# Altium footprint library lagd_pcb.PcbLib: 42 footprints (part 1 of 3)
Each footprint in its own frame and in the unit in brackets; x right, y up, seen from the top. Pads: shape width x height; smd on the part's side, far side on the other; paste and mask are expansions set on the pad; w line width, h text height; cw(c..) or ccw(c..) is an arc to the next point about the centre after c.
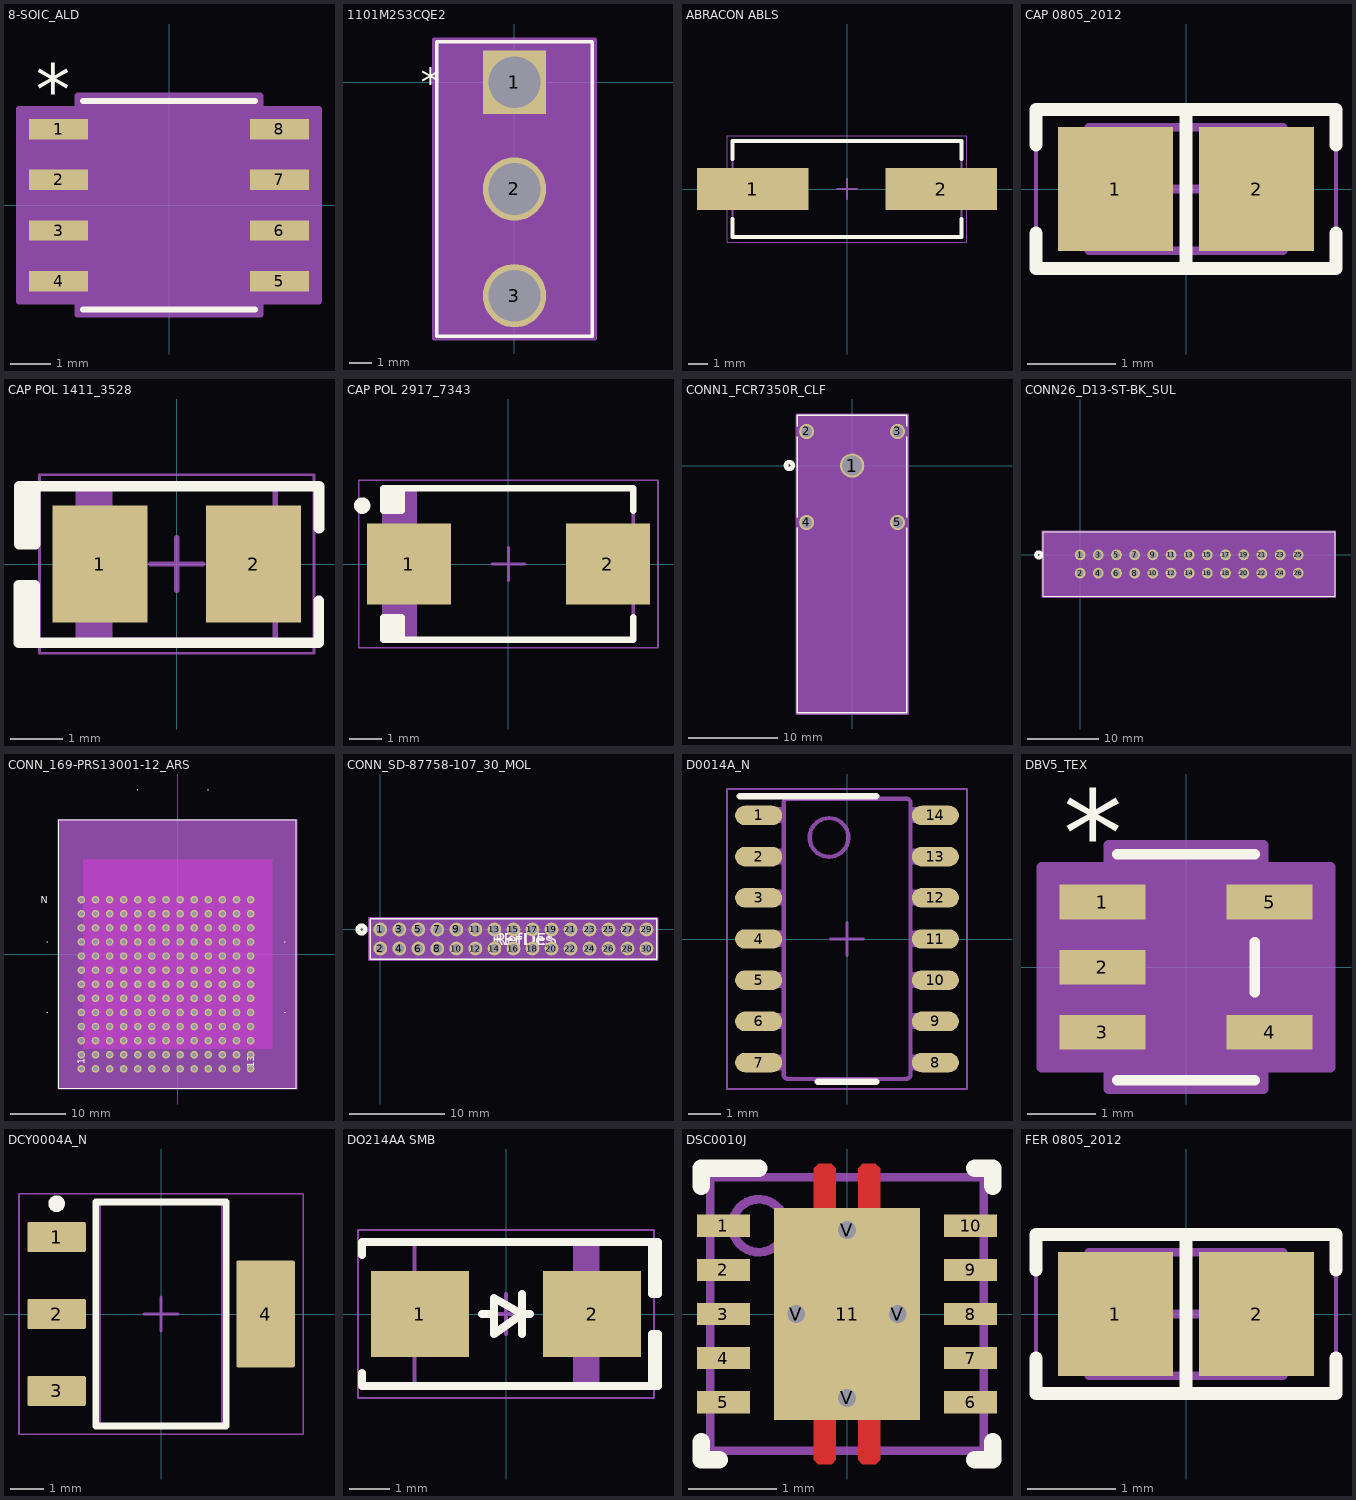
[diagram p0: the footprints below, top view; thin cyan lines are the x and y axes]

## 8-SOIC_ALD [mil]
pads (8):
  rect 58x20 smd paste+0 mask+0: 1(-109,75) 2(-109,25) 3(-109,-25) 4(-109,-75) 5(109,-75) 6(109,-25) 7(109,25) 8(109,75)
Top Overlay:
  lines w6: -85,-103 85,-103 ; -85,103 85,103
  text "*" at -131.5,90 h50
Top 3D Body:
  lines w1: -12,98 ccw(c0,98) 12,98 ; -124,-84 -80,-84 -80,-66 -124,-66 -124,-84 ; -124,-34 -80,-34 -80,-16 -124,-16 -124,-34 ; -124,16 -80,16 -80,34 -124,34 -124,16 ; -124,66 -80,66 -80,84 -124,84 -124,66 ; -80,-98 -80,98 80,98 80,-98 -80,-98 ; 80,-84 124,-84 124,-66 80,-66 80,-84 ; 80,-34 124,-34 124,-16 80,-16 80,-34 ; 80,16 124,16 124,34 80,34 80,16 ; 80,66 124,66 124,84 80,84 80,66
  text "*" at -77.5,45 h50
Top Courtyard:
  region: -90,-95 -148,-95 -148,95 -90,95 -90,108 90,108 90,95 148,95 148,-95 90,-95 90,-108 -90,-108
  lines w6: -148,-95 -90,-95 -90,-108 90,-108 90,-95 148,-95 148,95 90,95 90,108 -90,108 -90,95 -148,95 -148,-95
3D body "8-SOIC_ALD.step": height 69.09, standoff 0, extent -124.02,-97.99 124.02,97.99

## 1101M2S3CQE2 [mil]
pads (3):
  rect 110x110 hole 90 paste-99999 mask+0: 1(0,0)
  round 110 hole 90 paste-99999 mask+0: 2(0,-185) 3(0,-370)
Top Overlay:
  lines w6: -135,-440 -135,70 135,70 135,-440 -135,-440
  text "*" at -162.5,-25 h50
  text ".Designator" at -137.5,-210 h50
Top 3D Body:
  region: 76,-303.5 -76,-303.5 -76,-185 76,-185
  lines w1: -130,-435 -130,65 130,65 130,-435 -130,-435 ; -76,-303.5 76,-303.5 76,-66.5 -76,-66.5 -76,-303.5
  text ".Designator" at -137.5,-210 h50
  text "*" at -127.5,-25 h50
Top Courtyard:
  region: 140,-445 -140,-445 -140,75 140,75
  lines w6: -140,-445 -140,75 140,75 140,-445 -140,-445

## ABRACON ABLS [mm] "Crystal, 2-Leads, Body 4.70x11.40mm, Pitch 8.80mm, IPC Medium Density"
height 4.2
pads (2):
  rect 5.6x2.1 smd: 1(-4.75,0) 2(4.75,0)
Top Overlay:
  lines w0.2: -5.775,-1.5 -5.775,-2.425 5.775,-2.425 5.775,-1.5 ; -5.775,1.5 -5.775,2.425 5.775,2.425 5.775,1.5
Top 3D Body:
  lines w0.1: -5.775,-2.425 5.775,-2.425 5.775,2.425 -5.775,2.425 -5.775,-2.425
Top Courtyard:
  lines w0.05: -6.025,-2.675 6.025,-2.675 6.025,2.675 -6.025,2.675 -6.025,-2.675
  lines w0.1: -0.5,0 0.5,0 ; 0,-0.5 0,0.5
3D body "HC49US SMT Crystal.STEP": height 4.2, standoff 0, extent -6.35,-2.35 6.35,2.35

## CAP 0805_2012 [mm] "Chip Capacitor, 2-Leads, Body 2.00x1.20mm, IPC Medium Density"
height 1.15
pads (2):
  rect 1.3x1.4 smd: 1(-0.8,0) 2(0.8,0)
Top Overlay:
  lines w0.15: -1.7,-0.5 -1.7,-0.9 1.7,-0.9 1.7,-0.5 ; -1.7,0.5 -1.7,0.9 1.7,0.9 1.7,0.5 ; 0,-0.9 0,0.9
Top 3D Body:
  lines w0.1: -1.1,-0.7 1.1,-0.7 1.1,0.7 -1.1,0.7 -1.1,-0.7
Top Courtyard:
  lines w0.05: -1.7,-0.95 1.7,-0.95 1.7,0.95 -1.7,0.95 -1.7,-0.95
  lines w0.1: -0.5,0 0.5,0 ; 0,-0.5 0,0.5
3D body "0805 cap.STEP": height 1.26, standoff -0.02, extent -1,-0.637 1,0.637

## CAP POL 1411_3528 [mm] "Molded Capacitor, 2-Leads, Body 3.50x2.80mm, IPC Medium Density"
height 2
pads (2):
  rect 1.8x2.23 smd: 1(-1.46,0) 2(1.46,0)
Top Overlay:
  region: -3,-0.4 -3,-1.5 -2.7,-1.5 -2.7,-0.4
  region: -2.995,0.38 -2.995,1.48 -2.695,1.48 -2.695,0.38
  lines w0.2: 2.7,-0.7 2.7,-1.5 -2.7,-1.5 ; 2.705,0.68 2.705,1.48 -2.695,1.48 ; -2.7,-1.5 -2.7,-0.4 -3,-0.4 -3,-1.5 -2.7,-1.5 ; -2.695,1.48 -2.695,0.38 -2.995,0.38 -2.995,1.48 -2.695,1.48
Top 3D Body:
  rectangle: -1.876,-1.45 -1.226,1.45
  lines w0.1: -1.875,-1.45 1.875,-1.45 1.875,1.45 -1.875,1.45 -1.875,-1.45
Top Courtyard:
  lines w0.05: -2.61,-1.7 2.61,-1.7 2.61,1.7 -2.61,1.7 -2.61,-1.7
  lines w0.1: -0.5,0 0.5,0 ; 0,-0.5 0,0.5
3D body "CAP TANT - 1411 - 2.0MM.step": height 2, standoff 0, extent -1.865,-1.45 1.865,1.45

## CAP POL 2917_7343 [mm] "Molded Capacitor, 2-Leads, Body 7.30x4.30mm, IPC Medium Density"
height 4.3
pads (2):
  rect 2.55x2.45 smd: 1(-3.025,0) 2(3.025,0)
Top Overlay:
  circle w0.25: c-4.45,1.775 r0.125
  rectangle: -3.8,1.625 -3.25,2.3
  rectangle: -3.8,-2.3 -3.25,-1.625
  lines w0.2: -3.25,-2.3 -3.25,-1.625 -3.8,-1.625 -3.8,-2.3 3.8,-2.3 3.8,-1.625 ; -3.25,2.3 -3.25,1.625 -3.8,1.625 -3.8,2.3 3.8,2.3 3.8,1.625
Top 3D Body:
  rectangle: -3.8,-2.3 -2.778,2.3
  lines w0.1: -3.8,-2.3 3.8,-2.3 3.8,2.3 -3.8,2.3 -3.8,-2.3
Top Courtyard:
  lines w0.05: -4.55,-2.55 4.55,-2.55 4.55,2.55 -4.55,2.55 -4.55,-2.55
  lines w0.1: -0.5,0 0.5,0 ; 0,-0.5 0,0.5
3D body "Tantalum Capacitor case E.STEP": height 4.1, standoff 0, extent -3.65,-2.15 3.65,2.15

## CONN1_FCR7350R_CLF [mil]
pads (5):
  round 107 hole 87 paste-99999 mask+0: 1(0,0)
  round 67 hole 47 paste-99999 mask+0: 2(-200,149.61) 3(200,149.61) 4(-200,-250.39) 5(200,-250.39)
Top Overlay:
  circle w20: c-276,0 r15
  lines w6: -241,-272.54 -241,-1087.46 241,-1087.46 241,-272.54 ; -241,-228.25 -241,127.46 ; -241,171.75 -241,221.54 241,221.54 241,171.75 ; 241,-228.25 241,127.46
  text ".Designator" at -137.5,-25 h50
Bottom Overlay:
  circle w20: c-276,0 r15
Top 3D Body:
  circle w20: c0,0 r15
  lines w1: -236,-1082.46 236,-1082.46 236,216.54 -236,216.54 -236,-1082.46
  text ".Designator" at -137.5,-25 h50
Top Courtyard:
  region: 246,226.54 -246,226.54 -246,-1092.46 246,-1092.46
  lines w6: -246,-1092.46 -246,226.54 246,226.54 246,-1092.46 -246,-1092.46

## CONN26_D13-ST-BK_SUL [mil]
pads (26):
  round 59 / inner round 60 / far side round 59 hole 39 paste-99999 mask+0: 1(0,0) 2(0,-100) 3(100,0) 4(100,-100) 5(200,0) 6(200,-100) 7(300,0) 8(300,-100) 9(400,0) 10(400,-100) 11(500,0) 12(500,-100) 13(600,0) 14(600,-100) 15(700,0) 16(700,-100) 17(800,0) 18(800,-100) 19(900,0) 20(900,-100) 21(1000,0) 22(1000,-100) 23(1100,0) 24(1100,-100) 25(1200,0) 26(1200,-100)
Top Overlay:
  circle w20: c-227.5,0 r15
  lines w6: -202.5,-228 1402.5,-228 1402.5,128 -202.5,128 -202.5,-228
Bottom Overlay:
  circle w20: c-227.5,0 r15
Top 3D Body:
  circle w20: c0,75 r15
  lines w1: -197.5,-223 1397.5,-223 1397.5,123 -197.5,123 -197.5,-223
Top Courtyard:
  region: 1407.5,133 -207.5,133 -207.5,-233 1407.5,-233
  lines w6: -207.5,-233 -207.5,133 1407.5,133 1407.5,-233 -207.5,-233

## CONN_169-PRS13001-12_ARS [mil]
pads (169):
  round 54 hole 34 paste-99999 mask+0: A1(-682.5,-814) A2(-582.5,-814) A3(-482.5,-814) A4(-382.5,-814) A5(-282.5,-814) A6(-182.5,-814) A7(-82.5,-814) A8(17.5,-814) A9(117.5,-814) A10(217.5,-814) A11(317.5,-814) A12(417.5,-814) A13(517.5,-814) B1(-682.5,-714) B2(-582.5,-714) B3(-482.5,-714) B4(-382.5,-714) B5(-282.5,-714) B6(-182.5,-714) B7(-82.5,-714) B8(17.5,-714) B9(117.5,-714) B10(217.5,-714) B11(317.5,-714) B12(417.5,-714) B13(517.5,-714) C1(-682.5,-614) C2(-582.5,-614) C3(-482.5,-614) C4(-382.5,-614) C5(-282.5,-614) C6(-182.5,-614) C7(-82.5,-614) C8(17.5,-614) C9(117.5,-614) C10(217.5,-614) C11(317.5,-614) C12(417.5,-614) C13(517.5,-614) D1(-682.5,-514) D2(-582.5,-514) D3(-482.5,-514) D4(-382.5,-514) D5(-282.5,-514) D6(-182.5,-514) D7(-82.5,-514) D8(17.5,-514) D9(117.5,-514) D10(217.5,-514) D11(317.5,-514) D12(417.5,-514) D13(517.5,-514) E1(-682.5,-414) E2(-582.5,-414) E3(-482.5,-414) E4(-382.5,-414) E5(-282.5,-414) E6(-182.5,-414) E7(-82.5,-414) E8(17.5,-414) E9(117.5,-414) E10(217.5,-414) E11(317.5,-414) E12(417.5,-414) E13(517.5,-414) F1(-682.5,-314) F2(-582.5,-314) F3(-482.5,-314) F4(-382.5,-314) F5(-282.5,-314) F6(-182.5,-314) F7(-82.5,-314) F8(17.5,-314) F9(117.5,-314) F10(217.5,-314) F11(317.5,-314) F12(417.5,-314) F13(517.5,-314) G1(-682.5,-214) G2(-582.5,-214) G3(-482.5,-214) G4(-382.5,-214) G5(-282.5,-214) G6(-182.5,-214) G7(-82.5,-214) G8(17.5,-214) G9(117.5,-214) G10(217.5,-214) G11(317.5,-214) G12(417.5,-214) G13(517.5,-214) H1(-682.5,-114) H2(-582.5,-114) H3(-482.5,-114) H4(-382.5,-114) H5(-282.5,-114) H6(-182.5,-114) H7(-82.5,-114) H8(17.5,-114) H9(117.5,-114) H10(217.5,-114) H11(317.5,-114) H12(417.5,-114) H13(517.5,-114) J1(-682.5,-14) J2(-582.5,-14) J3(-482.5,-14) J4(-382.5,-14) J5(-282.5,-14) J6(-182.5,-14) J7(-82.5,-14) J8(17.5,-14) J9(117.5,-14) J10(217.5,-14) J11(317.5,-14) J12(417.5,-14) J13(517.5,-14) K1(-682.5,86) K2(-582.5,86) K3(-482.5,86) K4(-382.5,86) K5(-282.5,86) K6(-182.5,86) K7(-82.5,86) K8(17.5,86) K9(117.5,86) K10(217.5,86) K11(317.5,86) K12(417.5,86) K13(517.5,86) L1(-682.5,186) L2(-582.5,186) L3(-482.5,186) L4(-382.5,186) L5(-282.5,186) L6(-182.5,186) L7(-82.5,186) L8(17.5,186) L9(117.5,186) L10(217.5,186) L11(317.5,186) L12(417.5,186) L13(517.5,186) M1(-682.5,286) M2(-582.5,286) M3(-482.5,286) M4(-382.5,286) M5(-282.5,286) M6(-182.5,286) M7(-82.5,286) M8(17.5,286) M9(117.5,286) M10(217.5,286) M11(317.5,286) M12(417.5,286) M13(517.5,286) N1(-682.5,386) N2(-582.5,386) N3(-482.5,386) N4(-382.5,386) N5(-282.5,386) N6(-182.5,386) N7(-82.5,386) N8(17.5,386) N9(117.5,386) N10(217.5,386) N11(317.5,386) N12(417.5,386) N13(517.5,386)
Top Overlay:
  lines w6: -930,-414 -920,-414 ; -930,86 -920,86 ; -282.5,1161 -282.5,1171 ; 217.5,1161 217.5,1171 ; 755,-414 765,-414 ; 755,86 765,86 ; -842.5,-952 842.5,-952 842.5,952 -842.5,952 -842.5,-952
  text "N" at -970,361 h50
  text "1" at -657.5,-783 h50
  text "13" at 542.5,-808 h50
  text ".Designator" at -137.5,-25 h50
Bottom Overlay:
  text "N" at -945,361 h50
  text "1" at -707.5,-783 h50
  text "13" at 492.5,-808 h50
Keep-Out Layer:
  region: -670,-670 -670,670 670,670 670,-670
Top 3D Body:
  lines w1: -837.5,-897 -787.5,-947 ; -837.5,-947 837.5,-947 837.5,947 -837.5,947 -837.5,-947
  text ".Designator" at -137.5,-25 h50
  text "N" at -970,361 h50
  text "A" at -968.33,-840.38 h50
  text "1" at -657.5,-783 h50
  text "13" at 542.5,-808 h50
Top Courtyard:
  region: 847.5,-957 -847.5,-957 -847.5,957 847.5,957
  lines w6: -847.5,-957 -847.5,957 847.5,957 847.5,-957 -847.5,-957

## CONN_SD-87758-107_30_MOL [mil]
pads (30):
  round 57 / inner round 60 / far side round 57 hole 37 paste-99999 mask+0: 1(0,0) 2(0,-78.74) 3(78.74,0) 4(78.74,-78.74) 5(157.48,0) 6(157.48,-78.74) 7(236.22,0) 8(236.22,-78.74) 9(314.96,0) 10(314.96,-78.74) 11(393.7,0) 12(393.7,-78.74) 13(472.44,0) 14(472.44,-78.74) 15(551.18,0) 16(551.18,-78.74) 17(629.92,0) 18(629.92,-78.74) 19(708.66,0) 20(708.66,-78.74) 21(787.4,0) 22(787.4,-78.74) 23(866.14,0) 24(866.14,-78.74) 25(944.88,0) 26(944.88,-78.74) 27(1023.62,0) 28(1023.62,-78.74) 29(1102.36,0) 30(1102.36,-78.74)
Top Overlay:
  circle w20: c-77.32,0 r15
  lines w6: -42.32,-122.87 1144.68,-122.87 1144.68,44.13 -42.32,44.13 -42.32,-122.87
  text "RefDes" at 476.18,-64.37 h50
  text "REFDES" at 463.68,-64.37 h50
Bottom Overlay:
  circle w20: c-77.32,0 r15
Top 3D Body:
  circle w20: c0,0 r15
  lines w1: -37.32,-117.87 1139.68,-117.87 1139.68,39.13 -37.32,39.13 -37.32,-117.87
  text "RefDes2" at 463.68,-64.37 h50
Top Courtyard:
  region: 1149.68,49.13 -47.32,49.13 -47.32,-127.87 1149.68,-127.87
  lines w6: -47.32,-127.87 -47.32,49.13 1149.68,49.13 1149.68,-127.87 -47.32,-127.87

## D0014A_N [mm]
pads (14):
  oval 1.45x0.6 smd paste+0 mask+0: 1(-2.725,3.81) 2(-2.725,2.54) 3(-2.725,1.27) 4(-2.725,0) 5(-2.725,-1.27) 6(-2.725,-2.54) 7(-2.725,-3.81) 8(2.725,-3.81) 9(2.725,-2.54) 10(2.725,-1.27) 11(2.725,0) 12(2.725,1.27) 13(2.725,2.54) 14(2.725,3.81)
Top Overlay:
  lines w0.2: -3.3,4.4 0.9,4.4 ; -0.9,-4.4 0.9,-4.4
Top 3D Body:
  drawing of 164 lines, arcs and shapes, not listed
Top Courtyard:
  lines w0.05: -3.7,-4.625 -3.7,4.625 3.7,4.625 3.7,-4.625 -3.7,-4.625
  lines w0.1: -0.5,0 0.5,0 ; 0,-0.5 0,0.5

## DBV5_TEX [mil]
pads (5):
  rect 49.56x20 smd paste+0 mask+0: 1(-48,37.4) 2(-48,0) 3(-48,-37.4) 4(48,-37.4) 5(48,37.4)
Top Overlay:
  lines w6: -39.5,-65 39.5,-65 ; -39.5,65 39.5,65 ; 39.5,-14.3 39.5,14.3
  text "*" at -70.5,52.4 h50
Top 3D Body:
  lines w1: -12,60 ccw(c0,60) 12,60 ; -59,-47.4 -34.5,-47.4 -34.5,-27.4 -59,-27.4 -59,-47.4 ; -59,-10 -34.5,-10 -34.5,10 -59,10 -59,-10 ; -59,27.4 -34.5,27.4 -34.5,47.4 -59,47.4 -59,27.4 ; -34.5,-60 -34.5,60 34.5,60 34.5,-60 -34.5,-60 ; 34.5,-47.4 59,-47.4 59,-27.4 34.5,-27.4 34.5,-47.4 ; 34.5,27.4 59,27.4 59,47.4 34.5,47.4 34.5,27.4
  text "*" at -37,14.4 h50
Top Courtyard:
  region: 44.5,-70 -44.5,-70 -44.5,-57.4 -82.78,-57.4 -82.78,57.4 -44.5,57.4 -44.5,70 44.5,70 44.5,57.4 82.78,57.4 82.78,-57.4 44.5,-57.4
  lines w6: -82.78,-57.4 -82.78,57.4 -44.5,57.4 -44.5,70 44.5,70 44.5,57.4 82.78,57.4 82.78,-57.4 44.5,-57.4 44.5,-70 -44.5,-70 -44.5,-57.4 -82.78,-57.4
3D body "DBV5_TEX.step": height 67.09, standoff 0, extent -59.02,-60 59.02,60

## DCY0004A_N [mm] "SOT223, 4-Leads, Body 6.7x3.7mm, Pitch 2.3mm, IPC Medium Density"
height 1.8
pads (4):
  rrect11% 1.75x0.9 smd: 1(-3.125,2.3) 2(-3.125,0) 3(-3.125,-2.3)
  rrect6% 1.75x3.2 smd: 4(3.125,0)
Top Overlay:
  circle w0.25: c-3.125,3.3 r0.125
  lines w0.2: -1.95,-3.35 -1.95,3.35 1.95,3.35 1.95,-3.35 -1.95,-3.35
Mechanical 1:
  text ".Designator" at -1.651,-0.254 h0.8
Top 3D Body:
  lines w0.1: -1.85,-3.35 -1.85,3.35 1.85,3.35 1.85,-3.35 -1.85,-3.35
Top Courtyard:
  lines w0.05: -4.25,-3.6 -4.25,3.6 4.25,3.6 4.25,-3.6 -4.25,-3.6
  lines w0.1: -0.5,0 0.5,0 ; 0,-0.5 0,0.5
3D body "SOT-223.stp": height 1.62, standoff -0.03, extent -3.5,-3.25 3.5,3.25

## DO214AA SMB [mm] "Molded Diode, 2-Leads, Body 4.31x3.62mm, IPC Medium Density"
height 2.44
pads (2):
  rect 2.45x2.15 smd: 1(-2.15,0) 2(2.15,0)
Top Overlay:
  lines w0.2: -3.6,-1.475 -3.6,-1.8 3.8,-1.8 3.8,-0.5 3.65,-0.5 3.65,-1.8 ; -3.6,1.475 -3.6,1.8 3.8,1.8 3.8,0.5 3.65,0.5 3.65,1.8 ; -0.6,0 -0.3,0 ; 0.4,-0.5 0.4,0.5 ; 0.6,0 0.4,0 ; 0.4,0 -0.3,-0.5 -0.3,0.4 0.4,0
Top 3D Body:
  rectangle: 1.669,-1.801 2.284,1.799
  lines w0.1: -2.285,-1.8 -2.285,1.8 2.285,1.8 2.285,-1.8 -2.285,-1.8
Top Courtyard:
  lines w0.05: -3.7,-2.1 -3.7,2.1 3.7,2.1 3.7,-2.1 -3.7,-2.1
  lines w0.1: -0.5,0 0.5,0 ; 0,-0.5 0,0.5
3D body "SMB.STEP": height 2.4, standoff 0, extent -2.6,-1.8 2.6,1.8

## DSC0010J [mm]
pads (15):
  rect 0.6x0.25 smd paste+0 mask+0: 1(-1.4,1) 2(-1.4,0.5) 3(-1.4,0) 4(-1.4,-0.5) 5(-1.4,-1) 6(1.4,-1) 7(1.4,-0.5) 8(1.4,0) 9(1.4,0.5) 10(1.4,1)
  rect 1.65x2.4 smd paste-1.187 mask-1.181: 11(0,0)
  round 0.5 hole 0.203 paste-2539.97 mask-0.051: V(-0.575,0) V(0,-0.95) V(0,0.95) V(0.575,0)
Top Layer:
  region: -0.325,-1.7 -0.375,-1.65 -0.375,-1.2 -0.775,-1.2 -0.825,-1.15 -0.825,1.15 -0.775,1.2 -0.375,1.2 -0.375,1.65 -0.325,1.7 -0.175,1.7 -0.125,1.65 -0.125,1.2 0.125,1.2 0.125,1.65 0.175,1.7 0.325,1.7 0.375,1.65 0.375,1.2 0.775,1.2 0.825,1.15 0.825,-1.15 0.775,-1.2 0.375,-1.2 0.375,-1.65 0.325,-1.7 0.175,-1.7 0.125,-1.65 0.125,-1.2 -0.125,-1.2 -0.125,-1.65 -0.175,-1.7
Top Overlay:
  lines w0.2: -1.65,-1.45 -1.65,-1.65 -1.45,-1.65 ; -1.65,1.45 -1.65,1.65 -1,1.65 ; 1.45,-1.65 1.65,-1.65 1.65,-1.45 ; 1.45,1.65 1.65,1.65 1.65,1.45
Top Paste:
  region: -0.325,1.36 -0.375,1.41 -0.375,1.65 -0.325,1.7 -0.175,1.7 -0.125,1.65 -0.125,1.41 -0.175,1.36
  region: 0.175,1.36 0.125,1.41 0.125,1.65 0.175,1.7 0.325,1.7 0.375,1.65 0.375,1.41 0.325,1.36
  region: -0.325,-1.7 -0.375,-1.65 -0.375,-1.41 -0.325,-1.36 -0.175,-1.36 -0.125,-1.41 -0.125,-1.65 -0.175,-1.7
  region: 0.125,-1.41 0.125,-1.65 0.175,-1.7 0.325,-1.7 0.375,-1.65 0.375,-1.41 0.325,-1.36 0.175,-1.36
  region: -0.7,0.1 -0.75,0.15 -0.75,1.11 -0.7,1.16 0.7,1.16 0.75,1.11 0.75,0.15 0.7,0.1
  region: -0.75,-0.15 -0.75,-1.11 -0.7,-1.16 0.7,-1.16 0.75,-1.11 0.75,-0.15 0.7,-0.1 -0.7,-0.1
Top Solder:
  region: -0.325,-1.7 -0.375,-1.65 -0.375,-1.2 -0.775,-1.2 -0.825,-1.15 -0.825,1.15 -0.775,1.2 -0.375,1.2 -0.375,1.65 -0.325,1.7 -0.175,1.7 -0.125,1.65 -0.125,1.2 0.125,1.2 0.125,1.65 0.175,1.7 0.325,1.7 0.375,1.65 0.375,1.2 0.775,1.2 0.825,1.15 0.825,-1.15 0.775,-1.2 0.375,-1.2 0.375,-1.65 0.325,-1.7 0.175,-1.7 0.125,-1.65 0.125,-1.2 -0.125,-1.2 -0.125,-1.65 -0.175,-1.7
Top 3D Body:
  circle w0.1: c-1,1 r0.3
  lines w0.1: -1.55,-1.55 -1.55,1.55 1.55,1.55 1.55,-1.55 -1.55,-1.55
  text ".Designator" at -3.492,-0.635 h1.27

## FER 0805_2012 [mm] "Chip Ferrite, 2-Leads, Body 2.00x1.20mm, IPC Medium Density"
height 1.15
pads (2):
  rect 1.3x1.4 smd: 1(-0.8,0) 2(0.8,0)
Top Overlay:
  lines w0.15: -1.7,-0.5 -1.7,-0.9 1.7,-0.9 1.7,-0.5 ; -1.7,0.5 -1.7,0.9 1.7,0.9 1.7,0.5 ; 0,-0.9 0,0.9
Top 3D Body:
  lines w0.1: -1.1,-0.7 1.1,-0.7 1.1,0.7 -1.1,0.7 -1.1,-0.7
Top Courtyard:
  lines w0.05: -1.7,-0.95 1.7,-0.95 1.7,0.95 -1.7,0.95 -1.7,-0.95
  lines w0.1: -0.5,0 0.5,0 ; 0,-0.5 0,0.5
3D body "FER 0805.STEP": height 1.26, standoff -0.02, extent -1,-0.637 1,0.637